# EAGLE library part 050_610_?-5/10 (library con-sullinselectronics)
.050 DIP EDGE CARD CONNECTOR .050 [1.27mm] CONTACT CENTERS .610" INSULATEOR HEIGHT Source: .050 DIP EDGE CARD.pdf
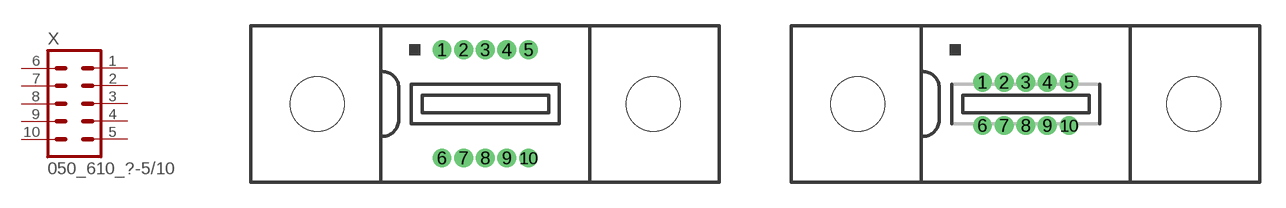
[diagram p4: symbol with the pads of 050_610_HL-5/10; footprints 050_610_HL-5/10, 050_610_HN-5/10]

Designator prefix X

## 050_610_HL-5/10 (OC_FARNELL: unknown; OC_NEWARK: unknown)  [050_610_HL-5/10]
1  1  pas
2  2  pas
3  3  pas
4  4  pas
5  5  pas
6  6  pas
7  7  pas
8  8  pas
9  9  pas
10  10  pas

## 050_610_HN-5/10 (OC_FARNELL: unknown; OC_NEWARK: unknown)  [050_610_HN-5/10]
Pads as for 050_610_HL-5/10

## 050_610_HH-5/10 (OC_FARNELL: unknown; OC_NEWARK: unknown)  [050_610_HH-5/10]
Pads as for 050_610_HL-5/10

## 050_610_HF-5/10 (OC_FARNELL: unknown; OC_NEWARK: unknown)  [050_610_HF-5/10]
Pads as for 050_610_HL-5/10

## Footprint 050_610_HL-5/10 (pad centres in mm)
.050 DIP EDGE CARD CONNECTOR DIP SOLDER .050 [1.27mm] CONTACT CENTERS .610" INSULATEOR HEIGHT Source: .050 DIP EDGE CARD.pdf
drill 0.6 pad 1: 1 -2.54,3.175; 2 -1.27,3.175; 3 0,3.175; 4 1.27,3.175; 5 2.54,3.175; 6 -2.54,-3.175; 7 -1.27,-3.175; 8 0,-3.175; 9 1.27,-3.175; 10 2.54,-3.175
hole 3.18 at -9.855,0
hole 3.18 at 9.855,0

## Footprint 050_610_HN-5/10 (pad centres in mm)
.050 DIP EDGE CARD CONNECTOR DIP SOLDER .050 [1.27mm] CONTACT CENTERS .610" INSULATEOR HEIGHT Source: .050 DIP EDGE CARD.pdf
drill 0.6 pad 1: 1 -2.54,1.27; 2 -1.27,1.27; 3 0,1.27; 4 1.27,1.27; 5 2.54,1.27; 6 -2.54,-1.27; 7 -1.27,-1.27; 8 0,-1.27; 9 1.27,-1.27; 10 2.54,-1.27
hole 3.18 at -9.855,0
hole 3.18 at 9.855,0

## Footprint 050_610_HH-5/10 (pad centres in mm)
.050 DIP EDGE CARD CONNECTOR STAGGERED DIP SOLDER .050 [1.27mm] CONTACT CENTERS .610" INSULATEOR HEIGHT Source: .050 DIP EDGE CARD.pdf
drill 0.6 pad 1: 1 -2.54,2.54; 2 -1.27,1.27; 3 0,2.54; 4 1.27,1.27; 5 2.54,2.54; 6 -2.54,-1.27; 7 -1.27,-2.54; 8 0,-1.27; 9 1.27,-2.54; 10 2.54,-1.27
hole 3.18 at -9.855,0
hole 3.18 at 9.855,0

## Footprint 050_610_HF-5/10 (pad centres in mm)
.050 DIP EDGE CARD CONNECTOR SURFACE MOUNT .050 [1.27mm] CONTACT CENTERS .610" INSULATEOR HEIGHT Source: .050 DIP EDGE CARD.pdf
smd 1 x 2.5: 1 -2.54,5.715; 2 -1.27,5.715; 3 0,5.715; 4 1.27,5.715; 5 2.54,5.715; 6 -2.54,-5.715; 7 -1.27,-5.715; 8 0,-5.715; 9 1.27,-5.715; 10 2.54,-5.715
hole 3.18 at -9.855,0
hole 3.18 at 9.855,0